# Altium schematic symbol library ERA6ARB1741V.SchLib: 1 symbol
Pins are listed as number, name and electrical type; pins without a type are passive.

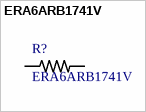
[diagram p0: symbol ERA6ARB1741V]

## ERA6ARB1741V
designator R?
RESISTOR, 0805, 1K74, 0.1%, 0.125W; Resistance: 1.74kohm; Power Rating: 125mW; Resistance Tolerance: 卤 0.1%; Resistor...; MF: Panasonic; Availability: Unavailable; MP: ERA6ARB1741V; Price: 0.24 USD; Package: 0805 Panasonic; Value: *
footprint RESC2012X70
pins: 1, 2